# Altium integrated library TI Amplifiers and Linear Operational Amplifier High Speed.IntLib: 1100 symbols (part 16 of 44)
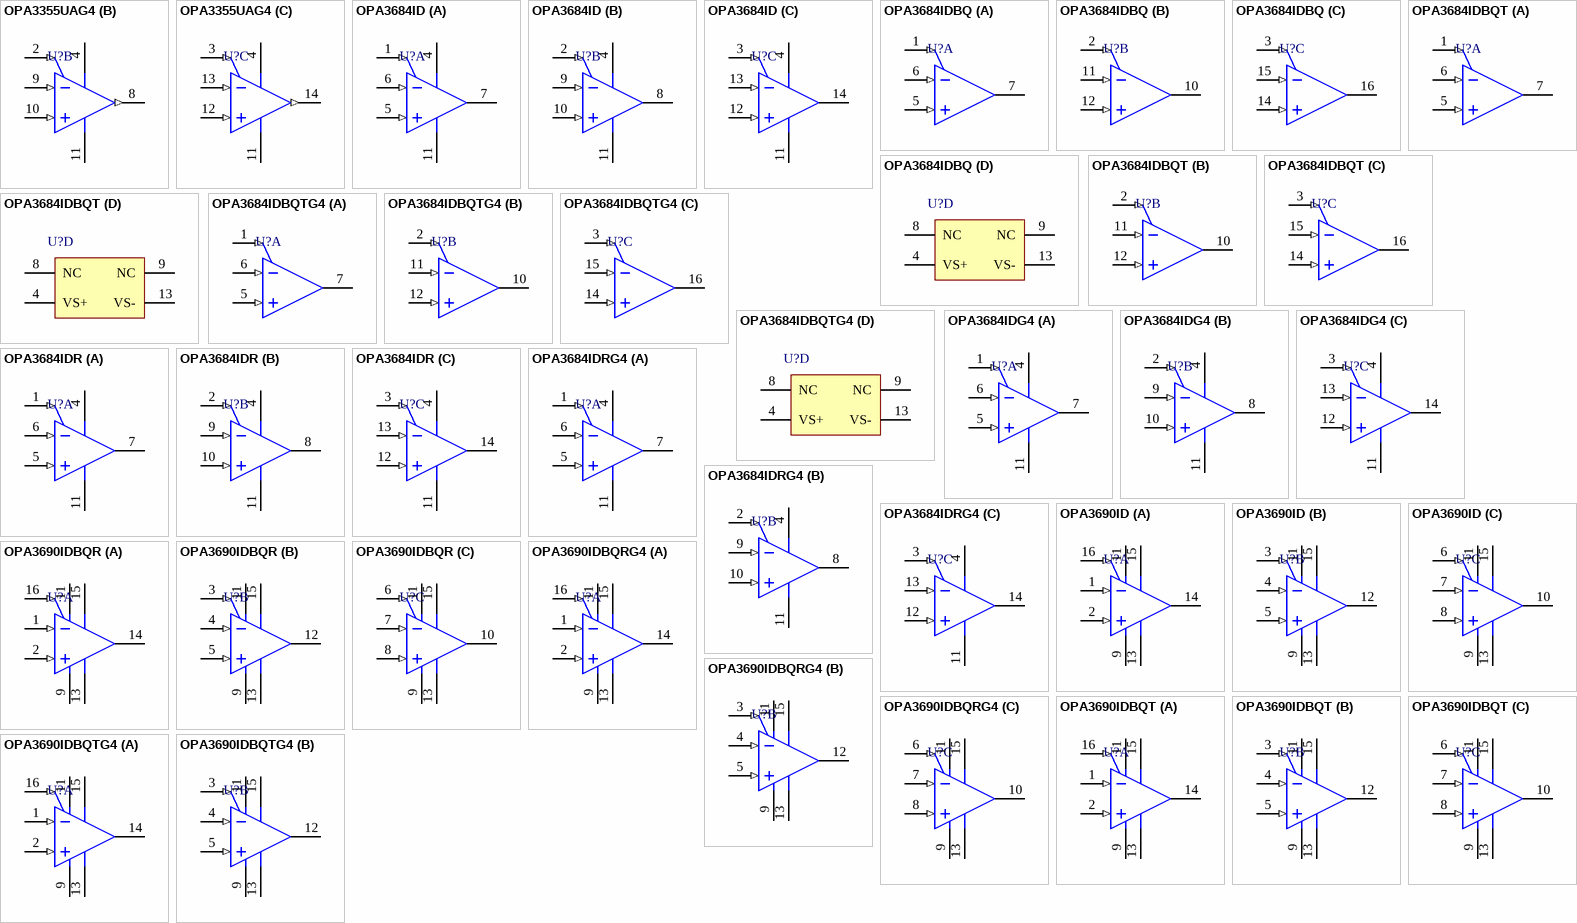
[diagram p66: symbols OPA3355UAG4 to OPA3690IDBQTG4]

## OPA3690IDBQR
designator U?
Triple, Wideband, Voltage-Feedback Operational Amplifier with Disable, 5 to 12 V, -40 to 85 degC, 16-pin SOP (DBQ16), Green (RoHS & no Sb/Br); Manufacturer: Texas Instruments; PartNumber: OPA3690IDBQR; 2nd Harmonic(dBc): 77; 3rd Harmonic(dBc): 81; @ MHz: 5; Acl, min stable gain(V/V): 1; BW @ Acl(MHz): 500; Diff Gain(%): 0.06; Diff Phase(deg): 0.01; Iib(Max)(nA): 12000; Io(Typ)(mA): 190; Iq per channel(Max)(mA): 6.3; Number of Channels: 3; Settling Time (0.1%)(Typ)(ns): 8; Slew Rate(Typ)(V/us): 1800; Sub Family: High Output Current Amplifier (>=50mA), High Speed Amplifier (>=50MHz); THD (Fc is 1 MHz)(Typ)(dB): -80; Vio(Max)(mV): 4.5; Vn at Flatband(Typ)(nV/rtHz): 5.5; Vs(Max)(V): 12; DatasheetVersion: SBOS237G; PackageVersion: 4073301-2/H, 10/2008; PackageReference: DBQ16; PackageDescription: 16-Pin, Plastic Small Outline, Body 3.9 x 4.9 mm, Pitch 0.635 mm; Supplier 1: Digi-Key; Supplier Part Number 1: OPA3690IDBQR-ND; Supplier 2: Newark; Supplier Part Number 2: 75C4928; Supplier 3: Mouser; Supplier Part Number 3: 595-OPA3690IDBQR; Eco-Plan: Green (RoHS & no Sb/Br); Vs(Min)(V): 5; Mounting Technology: Surface Mount; Code_JEDEC: MO-137; ComponentLink1Description: Manufacturer URL; ComponentLink1URL: http://www.ti.com/; ComponentLink2Description: Datasheet; ComponentLink2URL: http://www.ti.com/general/docs/lit/getliterature.tsp?genericPartNumber=OPA3690&fileType=pdf; ComponentLink3Description: Package Specification; ComponentLink3URL: http://www.ti.com/litv/pdf/msoi004g
footprint TI-DBQ16_N (SOP, 16-Leads, Body 4.9x3.9mm, Pitch 0.635mm, IPC Medium Density)
footprint TI-DBQ16_L (SOP, 16-Leads, Body 4.9x3.9mm, Pitch 0.635mm, IPC High Density)
footprint TI-DBQ16_M (SOP, 16-Leads, Body 4.9x3.9mm, Pitch 0.635mm, IPC Low Density)
pins on every part: 9 VS- (power), 11 VS+ (power), 13 VS- (power), 15 VS+ (power)
part A pins: 1 IN A- (in), 2 IN A+ (in), 14 OUT A (hiz), 16 ~{DIS A} (in)
part B pins: 3 ~{DIS B} (in), 4 IN B- (in), 5 IN B+ (in), 12 OUT B (hiz)
part C pins: 6 ~{DIS C} (in), 7 IN C- (in), 8 IN C+ (in), 10 OUT C (hiz)

## OPA3690IDBQRG4
designator U?
Triple, Wideband, Voltage-Feedback Operational Amplifier with Disable, 5 to 12 V, -40 to 85 degC, 16-pin SOP (DBQ16), Green (RoHS & no Sb/Br); Manufacturer: Texas Instruments; PartNumber: OPA3690IDBQRG4; 2nd Harmonic(dBc): 77; 3rd Harmonic(dBc): 81; @ MHz: 5; Acl, min stable gain(V/V): 1; BW @ Acl(MHz): 500; Diff Gain(%): 0.06; Diff Phase(deg): 0.03; Iib(Max)(nA): 12000; Io(Typ)(mA): 190; Iq per channel(Max)(mA): 6.3; Number of Channels: 3; Settling Time (0.1%)(Typ)(ns): 8; Slew Rate(Typ)(V/us): 1800; Sub Family: High Output Current Amplifier (>=50mA), High Speed Amplifier (>=50MHz); THD (Fc is 1 MHz)(Typ)(dB): -80; Vio(Max)(mV): 4.5; Vn at Flatband(Typ)(nV/rtHz): 5.5; Vs(Max)(V): 12; DatasheetVersion: SBOS237G; PackageVersion: 4073301-2/H, 10/2008; PackageReference: DBQ16; PackageDescription: 16-Pin, Plastic Small Outline, Body 3.9 x 4.9 mm, Pitch 0.635 mm; Supplier 1: Digi-Key; Supplier Part Number 1: OPA3690IDBQRG4-ND; Supplier 2: Mouser; Supplier Part Number 2: 595-OPA3690IDBQRG4; Eco-Plan: Green (RoHS & no Sb/Br); Vs(Min)(V): 5; Mounting Technology: Surface Mount; Code_JEDEC: MO-137; ComponentLink1Description: Manufacturer URL; ComponentLink1URL: http://www.ti.com/; ComponentLink2Description: Datasheet; ComponentLink2URL: http://www.ti.com/general/docs/lit/getliterature.tsp?genericPartNumber=OPA3690&fileType=pdf; ComponentLink3Description: Package Specification; ComponentLink3URL: http://www.ti.com/litv/pdf/msoi004g
footprint TI-DBQ16_N (SOP, 16-Leads, Body 4.9x3.9mm, Pitch 0.635mm, IPC Medium Density)
footprint TI-DBQ16_L (SOP, 16-Leads, Body 4.9x3.9mm, Pitch 0.635mm, IPC High Density)
footprint TI-DBQ16_M (SOP, 16-Leads, Body 4.9x3.9mm, Pitch 0.635mm, IPC Low Density)
pins on every part: 9 VS- (power), 11 VS+ (power), 13 VS- (power), 15 VS+ (power)
part A pins: 1 IN A- (in), 2 IN A+ (in), 14 OUT A (hiz), 16 ~{DIS A} (in)
part B pins: 3 ~{DIS B} (in), 4 IN B- (in), 5 IN B+ (in), 12 OUT B (hiz)
part C pins: 6 ~{DIS C} (in), 7 IN C- (in), 8 IN C+ (in), 10 OUT C (hiz)

## OPA3690IDBQT
designator U?
Triple, Wideband, Voltage-Feedback Operational Amplifier with Disable, 5 to 12 V, -40 to 85 degC, 16-pin SOP (DBQ16), Green (RoHS & no Sb/Br); Manufacturer: Texas Instruments; PartNumber: OPA3690IDBQT; 2nd Harmonic(dBc): 77; 3rd Harmonic(dBc): 81; @ MHz: 5; Acl, min stable gain(V/V): 1; BW @ Acl(MHz): 500; Diff Gain(%): 0.06; Diff Phase(deg): 0.01; Iib(Max)(nA): 12000; Io(Typ)(mA): 190; Iq per channel(Max)(mA): 6.3; Number of Channels: 3; Settling Time (0.1%)(Typ)(ns): 8; Slew Rate(Typ)(V/us): 1800; Sub Family: High Output Current Amplifier (>=50mA), High Speed Amplifier (>=50MHz); THD (Fc is 1 MHz)(Typ)(dB): -80; Vio(Max)(mV): 4.5; Vn at Flatband(Typ)(nV/rtHz): 5.5; Vs(Max)(V): 12; DatasheetVersion: SBOS237G; PackageVersion: 4073301-2/H, 10/2008; PackageReference: DBQ16; PackageDescription: 16-Pin, Plastic Small Outline, Body 3.9 x 4.9 mm, Pitch 0.635 mm; Supplier 1: Digi-Key; Supplier Part Number 1: OPA3690IDBQTTR-ND; Supplier 2: Digi-Key; Supplier Part Number 2: OPA3690IDBQTCT-ND; Supplier 3: Digi-Key; Supplier Part Number 3: OPA3690IDBQTDKR-ND; Supplier 4: Newark; Supplier Part Number 4: 75C4929; Supplier 5: Mouser; Supplier Part Number 5: 595-OPA3690IDBQT; Eco-Plan: Green (RoHS & no Sb/Br); Vs(Min)(V): 5; Mounting Technology: Surface Mount; Code_JEDEC: MO-137; ComponentLink1Description: Manufacturer URL; ComponentLink1URL: http://www.ti.com/; ComponentLink2Description: Datasheet; ComponentLink2URL: http://www.ti.com/general/docs/lit/getliterature.tsp?genericPartNumber=OPA3690&fileType=pdf; ComponentLink3Description: Package Specification; ComponentLink3URL: http://www.ti.com/litv/pdf/msoi004g
footprint TI-DBQ16_N (SOP, 16-Leads, Body 4.9x3.9mm, Pitch 0.635mm, IPC Medium Density)
footprint TI-DBQ16_L (SOP, 16-Leads, Body 4.9x3.9mm, Pitch 0.635mm, IPC High Density)
footprint TI-DBQ16_M (SOP, 16-Leads, Body 4.9x3.9mm, Pitch 0.635mm, IPC Low Density)
pins on every part: 9 VS- (power), 11 VS+ (power), 13 VS- (power), 15 VS+ (power)
part A pins: 1 IN A- (in), 2 IN A+ (in), 14 OUT A (hiz), 16 ~{DIS A} (in)
part B pins: 3 ~{DIS B} (in), 4 IN B- (in), 5 IN B+ (in), 12 OUT B (hiz)
part C pins: 6 ~{DIS C} (in), 7 IN C- (in), 8 IN C+ (in), 10 OUT C (hiz)

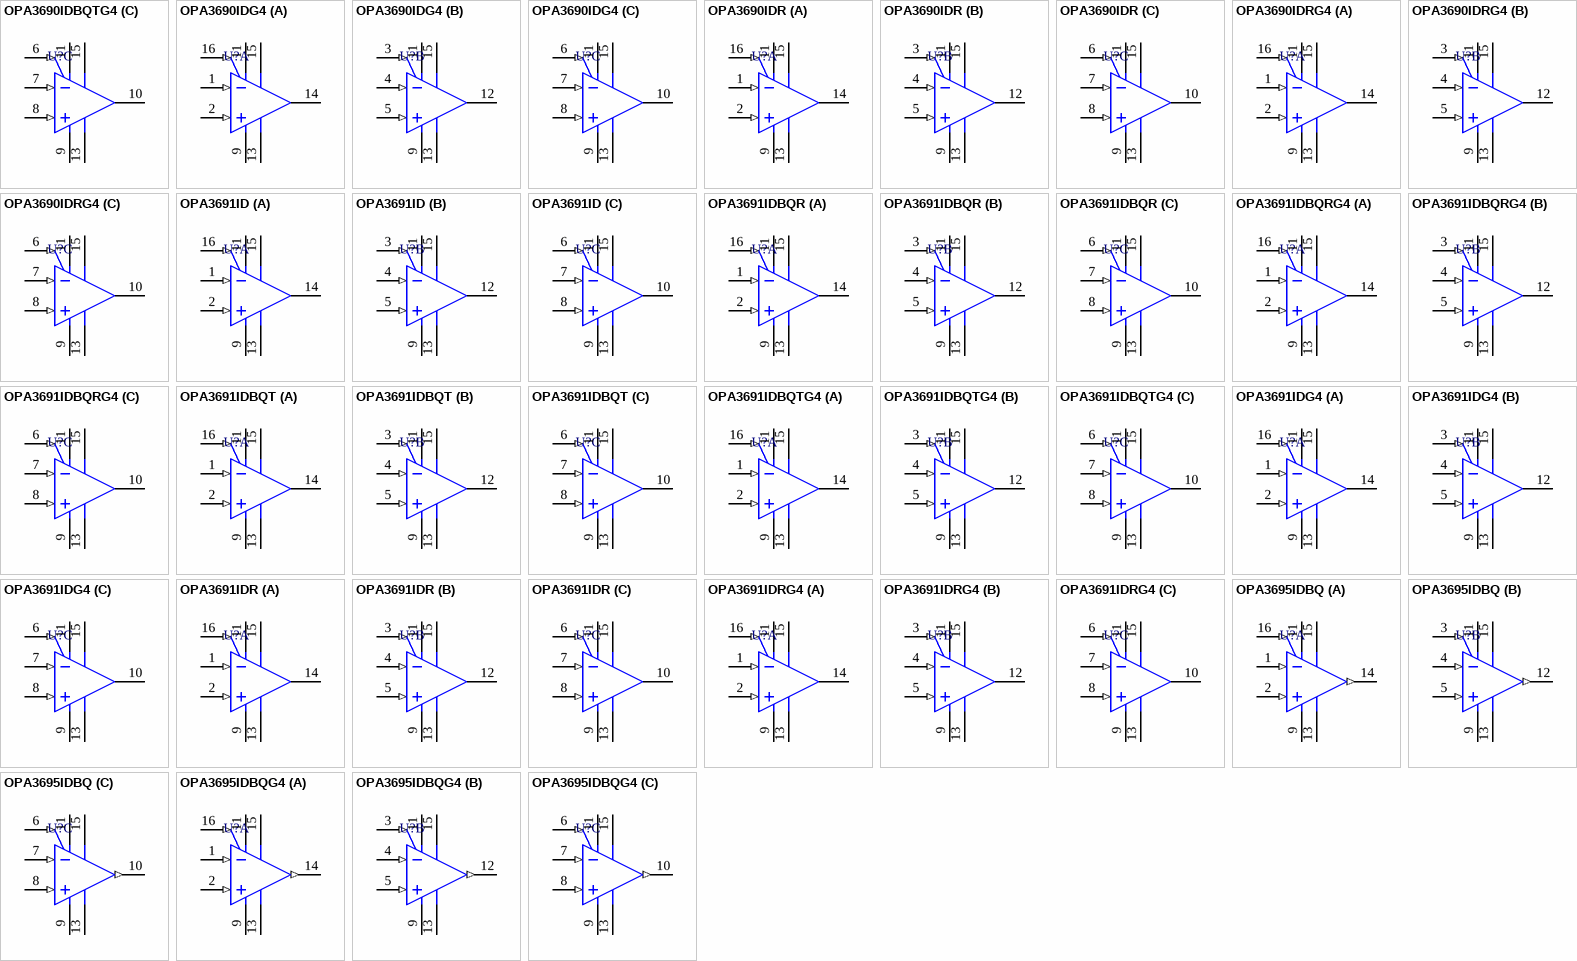
[diagram p17: symbols OPA3690IDBQTG4 to OPA3695IDBQG4]

## OPA3690IDBQTG4
designator U?
Triple, Wideband, Voltage-Feedback Operational Amplifier with Disable, 5 to 12 V, -40 to 85 degC, 16-pin SOP (DBQ16), Green (RoHS & no Sb/Br); Manufacturer: Texas Instruments; PartNumber: OPA3690IDBQTG4; 2nd Harmonic(dBc): 77; 3rd Harmonic(dBc): 81; @ MHz: 5; Acl, min stable gain(V/V): 1; BW @ Acl(MHz): 500; Diff Gain(%): 0.06; Diff Phase(deg): 0.03; Iib(Max)(nA): 12000; Io(Typ)(mA): 190; Iq per channel(Max)(mA): 6.3; Number of Channels: 3; Settling Time (0.1%)(Typ)(ns): 8; Slew Rate(Typ)(V/us): 1800; Sub Family: High Output Current Amplifier (>=50mA), High Speed Amplifier (>=50MHz); THD (Fc is 1 MHz)(Typ)(dB): -80; Vio(Max)(mV): 4.5; Vn at Flatband(Typ)(nV/rtHz): 5.5; Vs(Max)(V): 12; DatasheetVersion: SBOS237G; PackageVersion: 4073301-2/H, 10/2008; PackageReference: DBQ16; PackageDescription: 16-Pin, Plastic Small Outline, Body 3.9 x 4.9 mm, Pitch 0.635 mm; Supplier 1: Digi-Key; Supplier Part Number 1: OPA3690IDBQTG4-ND; Supplier 2: Mouser; Supplier Part Number 2: 595-OPA3690IDBQTG4; Eco-Plan: Green (RoHS & no Sb/Br); Vs(Min)(V): 5; Mounting Technology: Surface Mount; Code_JEDEC: MO-137; ComponentLink1Description: Manufacturer URL; ComponentLink1URL: http://www.ti.com/; ComponentLink2Description: Datasheet; ComponentLink2URL: http://www.ti.com/general/docs/lit/getliterature.tsp?genericPartNumber=OPA3690&fileType=pdf; ComponentLink3Description: Package Specification; ComponentLink3URL: http://www.ti.com/litv/pdf/msoi004g
footprint TI-DBQ16_N (SOP, 16-Leads, Body 4.9x3.9mm, Pitch 0.635mm, IPC Medium Density)
footprint TI-DBQ16_L (SOP, 16-Leads, Body 4.9x3.9mm, Pitch 0.635mm, IPC High Density)
footprint TI-DBQ16_M (SOP, 16-Leads, Body 4.9x3.9mm, Pitch 0.635mm, IPC Low Density)
pins on every part: 9 VS- (power), 11 VS+ (power), 13 VS- (power), 15 VS+ (power)
part A pins: 1 IN A- (in), 2 IN A+ (in), 14 OUT A (hiz), 16 ~{DIS A} (in)
part B pins: 3 ~{DIS B} (in), 4 IN B- (in), 5 IN B+ (in), 12 OUT B (hiz)
part C pins: 6 ~{DIS C} (in), 7 IN C- (in), 8 IN C+ (in), 10 OUT C (hiz)

## OPA3690IDG4
designator U?
Triple, Wideband, Voltage-Feedback Operational Amplifier with Disable, 5 to 12 V, -40 to 85 degC, 16-pin SOIC (D16), Green (RoHS & no Sb/Br); Manufacturer: Texas Instruments; PartNumber: OPA3690IDG4; 2nd Harmonic(dBc): 77; 3rd Harmonic(dBc): 81; @ MHz: 5; Acl, min stable gain(V/V): 1; BW @ Acl(MHz): 500; Diff Gain(%): 0.06; Diff Phase(deg): 0.03; Iib(Max)(nA): 12000; Io(Typ)(mA): 190; Iq per channel(Max)(mA): 6.3; Number of Channels: 3; Settling Time (0.1%)(Typ)(ns): 8; Slew Rate(Typ)(V/us): 1800; Sub Family: High Output Current Amplifier (>=50mA), High Speed Amplifier (>=50MHz); THD (Fc is 1 MHz)(Typ)(dB): -80; Vio(Max)(mV): 4.5; Vn at Flatband(Typ)(nV/rtHz): 5.5; Vs(Max)(V): 12; DatasheetVersion: SBOS237G; PackageVersion: 4040047-6/M, 06/2011; PackageReference: D16; PackageDescription: 16-Pin Plastic Small Outline, Body 9.9 x 3.9 mm, Pitch 1.27 mm; Supplier 1: Digi-Key; Supplier Part Number 1: OPA3690IDG4-ND; Supplier 2: Mouser; Supplier Part Number 2: 595-OPA3690IDG4; Eco-Plan: Green (RoHS & no Sb/Br); Vs(Min)(V): 5; Mounting Technology: Surface Mount; Code_JEDEC: MS-012; ComponentLink1Description: Manufacturer URL; ComponentLink1URL: http://www.ti.com/; ComponentLink2Description: Datasheet; ComponentLink2URL: http://www.ti.com/general/docs/lit/getliterature.tsp?genericPartNumber=OPA3690&fileType=pdf; ComponentLink3Description: Package Specification; ComponentLink3URL: http://www.ti.com/litv/pdf/mpds178g
footprint TI-D16_N (SOIC, 16-Leads, Body 9.9x3.9mm, Pitch 1.27mm, IPC Medium Density)
footprint TI-D16_L (SOIC, 16-Leads, Body 9.9x3.9mm, Pitch 1.27mm, IPC High Density)
footprint TI-D16_M (SOIC, 16-Leads, Body 9.9x3.9mm, Pitch 1.27mm, IPC Low Density)
pins on every part: 9 VS- (power), 11 VS+ (power), 13 VS- (power), 15 VS+ (power)
part A pins: 1 IN A- (in), 2 IN A+ (in), 14 OUT A (hiz), 16 ~{DIS A} (in)
part B pins: 3 ~{DIS B} (in), 4 IN B- (in), 5 IN B+ (in), 12 OUT B (hiz)
part C pins: 6 ~{DIS C} (in), 7 IN C- (in), 8 IN C+ (in), 10 OUT C (hiz)

## OPA3690IDR
designator U?
Triple, Wideband, Voltage-Feedback Operational Amplifier with Disable, 5 to 12 V, -40 to 85 degC, 16-pin SOIC (D16), Green (RoHS & no Sb/Br); Manufacturer: Texas Instruments; PartNumber: OPA3690IDR; 2nd Harmonic(dBc): 77; 3rd Harmonic(dBc): 81; @ MHz: 5; Acl, min stable gain(V/V): 1; BW @ Acl(MHz): 500; Diff Gain(%): 0.06; Diff Phase(deg): 0.03; Iib(Max)(nA): 12000; Io(Typ)(mA): 190; Iq per channel(Max)(mA): 6.3; Number of Channels: 3; Settling Time (0.1%)(Typ)(ns): 8; Slew Rate(Typ)(V/us): 1800; Sub Family: High Output Current Amplifier (>=50mA), High Speed Amplifier (>=50MHz); THD (Fc is 1 MHz)(Typ)(dB): -80; Vio(Max)(mV): 4.5; Vn at Flatband(Typ)(nV/rtHz): 5.5; Vs(Max)(V): 12; DatasheetVersion: SBOS237G; PackageVersion: 4040047-6/M, 06/2011; PackageReference: D16; PackageDescription: 16-Pin Plastic Small Outline, Body 9.9 x 3.9 mm, Pitch 1.27 mm; Supplier 1: Digi-Key; Supplier Part Number 1: OPA3690IDR-ND; Supplier 2: Mouser; Supplier Part Number 2: 595-OPA3690IDR; Eco-Plan: Green (RoHS & no Sb/Br); Vs(Min)(V): 5; Mounting Technology: Surface Mount; Code_JEDEC: MS-012; ComponentLink1Description: Manufacturer URL; ComponentLink1URL: http://www.ti.com/; ComponentLink2Description: Datasheet; ComponentLink2URL: http://www.ti.com/general/docs/lit/getliterature.tsp?genericPartNumber=OPA3690&fileType=pdf; ComponentLink3Description: Package Specification; ComponentLink3URL: http://www.ti.com/litv/pdf/mpds178g
footprint TI-D16_N (SOIC, 16-Leads, Body 9.9x3.9mm, Pitch 1.27mm, IPC Medium Density)
footprint TI-D16_L (SOIC, 16-Leads, Body 9.9x3.9mm, Pitch 1.27mm, IPC High Density)
footprint TI-D16_M (SOIC, 16-Leads, Body 9.9x3.9mm, Pitch 1.27mm, IPC Low Density)
pins on every part: 9 VS- (power), 11 VS+ (power), 13 VS- (power), 15 VS+ (power)
part A pins: 1 IN A- (in), 2 IN A+ (in), 14 OUT A (hiz), 16 ~{DIS A} (in)
part B pins: 3 ~{DIS B} (in), 4 IN B- (in), 5 IN B+ (in), 12 OUT B (hiz)
part C pins: 6 ~{DIS C} (in), 7 IN C- (in), 8 IN C+ (in), 10 OUT C (hiz)

## OPA3690IDRG4
designator U?
Triple, Wideband, Voltage-Feedback Operational Amplifier with Disable, 5 to 12 V, -40 to 85 degC, 16-pin SOIC (D16), Green (RoHS & no Sb/Br); Manufacturer: Texas Instruments; PartNumber: OPA3690IDRG4; 2nd Harmonic(dBc): 77; 3rd Harmonic(dBc): 81; @ MHz: 5; Acl, min stable gain(V/V): 1; BW @ Acl(MHz): 500; Diff Gain(%): 0.06; Diff Phase(deg): 0.01; Iib(Max)(nA): 12000; Io(Typ)(mA): 190; Iq per channel(Max)(mA): 6.3; Number of Channels: 3; Settling Time (0.1%)(Typ)(ns): 8; Slew Rate(Typ)(V/us): 1800; Sub Family: High Output Current Amplifier (>=50mA), High Speed Amplifier (>=50MHz); THD (Fc is 1 MHz)(Typ)(dB): -80; Vio(Max)(mV): 4.5; Vn at Flatband(Typ)(nV/rtHz): 5.5; Vs(Max)(V): 12; DatasheetVersion: SBOS237G; PackageVersion: 4040047-6/M, 06/2011; PackageReference: D16; PackageDescription: 16-Pin Plastic Small Outline, Body 9.9 x 3.9 mm, Pitch 1.27 mm; Supplier 1: Digi-Key; Supplier Part Number 1: OPA3690IDRG4-ND; Supplier 2: Mouser; Supplier Part Number 2: 595-OPA3690IDRG4; Eco-Plan: Green (RoHS & no Sb/Br); Vs(Min)(V): 5; Mounting Technology: Surface Mount; Code_JEDEC: MS-012; ComponentLink1Description: Manufacturer URL; ComponentLink1URL: http://www.ti.com/; ComponentLink2Description: Datasheet; ComponentLink2URL: http://www.ti.com/general/docs/lit/getliterature.tsp?genericPartNumber=OPA3690&fileType=pdf; ComponentLink3Description: Package Specification; ComponentLink3URL: http://www.ti.com/litv/pdf/mpds178g
footprint TI-D16_N (SOIC, 16-Leads, Body 9.9x3.9mm, Pitch 1.27mm, IPC Medium Density)
footprint TI-D16_L (SOIC, 16-Leads, Body 9.9x3.9mm, Pitch 1.27mm, IPC High Density)
footprint TI-D16_M (SOIC, 16-Leads, Body 9.9x3.9mm, Pitch 1.27mm, IPC Low Density)
pins on every part: 9 VS- (power), 11 VS+ (power), 13 VS- (power), 15 VS+ (power)
part A pins: 1 IN A- (in), 2 IN A+ (in), 14 OUT A (hiz), 16 ~{DIS A} (in)
part B pins: 3 ~{DIS B} (in), 4 IN B- (in), 5 IN B+ (in), 12 OUT B (hiz)
part C pins: 6 ~{DIS C} (in), 7 IN C- (in), 8 IN C+ (in), 10 OUT C (hiz)

## OPA3691ID
designator U?
Triple Wideband Current Feedback Operational Amplifier with Disable, 5 to 12 V, -40 to 85 degC, 16-pin SOIC (D16), Green (RoHS & no Sb/Br); Manufacturer: Texas Instruments; PartNumber: OPA3691ID; 2nd Harmonic(dBc): 79; 3rd Harmonic(dBc): 93; @ MHz: 5; Acl, min stable gain(V/V): 1; BW @ Acl(MHz): 280; Diff Gain(%): 0.07; Diff Phase(deg): 0.02; Iib(Max)(nA): 45000; Io(Typ)(mA): 190; Iq per channel(Max)(mA): 5.1; Number of Channels: 3; Settling Time (0.1%)(Typ)(ns): 8; Slew Rate(Typ)(V/us): 2100; Sub Family: High Output Current Amplifier (>=50mA), High Speed Amplifier (>=50MHz); THD (Fc is 1 MHz)(Typ)(dB): -80; Vn at Flatband(Typ)(nV/rtHz): 1.7; Vs(Max)(V): 12; DatasheetVersion: SBOS227E; PackageVersion: 4040047-6/M, 06/2011; PackageReference: D16; PackageDescription: 16-Pin Plastic Small Outline, Body 9.9 x 3.9 mm, Pitch 1.27 mm; Supplier 1: Digi-Key; Supplier Part Number 1: OPA3691ID-ND; Supplier 2: Newark; Supplier Part Number 2: 75C4931; Supplier 3: Mouser; Supplier Part Number 3: 595-OPA3691ID; Eco-Plan: Green (RoHS & no Sb/Br); Vio(Max)(mV): 3; Vs(Min)(V): 5; Mounting Technology: Surface Mount; Code_JEDEC: MS-012; ComponentLink1Description: Manufacturer URL; ComponentLink1URL: http://www.ti.com/; ComponentLink2Description: Datasheet; ComponentLink2URL: http://www.ti.com/general/docs/lit/getliterature.tsp?genericPartNumber=OPA3691&fileType=pdf; ComponentLink3Description: Package Specification; ComponentLink3URL: http://www.ti.com/litv/pdf/mpds178g
footprint TI-D16_N (SOIC, 16-Leads, Body 9.9x3.9mm, Pitch 1.27mm, IPC Medium Density)
footprint TI-D16_L (SOIC, 16-Leads, Body 9.9x3.9mm, Pitch 1.27mm, IPC High Density)
footprint TI-D16_M (SOIC, 16-Leads, Body 9.9x3.9mm, Pitch 1.27mm, IPC Low Density)
pins on every part: 9 VS- (power), 11 VS+ (power), 13 VS- (power), 15 VS+ (power)
part A pins: 1 IN A- (in), 2 IN A+ (in), 14 OUT A (hiz), 16 ~{DIS A} (in)
part B pins: 3 ~{DIS B} (in), 4 IN B- (in), 5 IN B+ (in), 12 OUT B (hiz)
part C pins: 6 ~{DIS C} (in), 7 IN C- (in), 8 IN C+ (in), 10 OUT C (hiz)

## OPA3691IDBQR
designator U?
Triple Wideband Current Feedback Operational Amplifier with Disable, 5 to 12 V, -40 to 85 degC, 16-pin SOP (DBQ16), Green (RoHS & no Sb/Br); Manufacturer: Texas Instruments; PartNumber: OPA3691IDBQR; 2nd Harmonic(dBc): 79; 3rd Harmonic(dBc): 93; @ MHz: 5; Acl, min stable gain(V/V): 1; BW @ Acl(MHz): 280; Diff Gain(%): 0.07; Diff Phase(deg): 0.02; Iib(Max)(nA): 45000; Io(Typ)(mA): 190; Iq per channel(Max)(mA): 5.1; Number of Channels: 3; Settling Time (0.1%)(Typ)(ns): 8; Slew Rate(Typ)(V/us): 2100; Sub Family: High Output Current Amplifier (>=50mA), High Speed Amplifier (>=50MHz); THD (Fc is 1 MHz)(Typ)(dB): -80; Vn at Flatband(Typ)(nV/rtHz): 1.7; Vs(Max)(V): 12; DatasheetVersion: SBOS227E; PackageVersion: 4073301-2/H, 10/2008; PackageReference: DBQ16; PackageDescription: 16-Pin, Plastic Small Outline, Body 3.9 x 4.9 mm, Pitch 0.635 mm; Supplier 1: Digi-Key; Supplier Part Number 1: OPA3691IDBQR-ND; Supplier 2: Mouser; Supplier Part Number 2: 595-OPA3691IDBQR; Eco-Plan: Green (RoHS & no Sb/Br); Vio(Max)(mV): 3; Vs(Min)(V): 5; Mounting Technology: Surface Mount; Code_JEDEC: MO-137; ComponentLink1Description: Manufacturer URL; ComponentLink1URL: http://www.ti.com/; ComponentLink2Description: Datasheet; ComponentLink2URL: http://www.ti.com/general/docs/lit/getliterature.tsp?genericPartNumber=OPA3691&fileType=pdf; ComponentLink3Description: Package Specification; ComponentLink3URL: http://www.ti.com/litv/pdf/msoi004g
footprint TI-DBQ16_N (SOP, 16-Leads, Body 4.9x3.9mm, Pitch 0.635mm, IPC Medium Density)
footprint TI-DBQ16_L (SOP, 16-Leads, Body 4.9x3.9mm, Pitch 0.635mm, IPC High Density)
footprint TI-DBQ16_M (SOP, 16-Leads, Body 4.9x3.9mm, Pitch 0.635mm, IPC Low Density)
pins on every part: 9 VS- (power), 11 VS+ (power), 13 VS- (power), 15 VS+ (power)
part A pins: 1 IN A- (in), 2 IN A+ (in), 14 OUT A (hiz), 16 ~{DIS A} (in)
part B pins: 3 ~{DIS B} (in), 4 IN B- (in), 5 IN B+ (in), 12 OUT B (hiz)
part C pins: 6 ~{DIS C} (in), 7 IN C- (in), 8 IN C+ (in), 10 OUT C (hiz)

## OPA3691IDBQRG4
designator U?
Triple Wideband Current Feedback Operational Amplifier with Disable, 5 to 12 V, -40 to 85 degC, 16-pin SOP (DBQ16), Green (RoHS & no Sb/Br); Manufacturer: Texas Instruments; PartNumber: OPA3691IDBQRG4; 2nd Harmonic(dBc): 79; 3rd Harmonic(dBc): 93; @ MHz: 5; Acl, min stable gain(V/V): 1; BW @ Acl(MHz): 280; Diff Gain(%): 0.07; Diff Phase(deg): 0.02; Iib(Max)(nA): 45000; Io(Typ)(mA): 190; Iq per channel(Max)(mA): 5.1; Number of Channels: 3; Settling Time (0.1%)(Typ)(ns): 8; Slew Rate(Typ)(V/us): 2100; Sub Family: High Output Current Amplifier (>=50mA), High Speed Amplifier (>=50MHz); THD (Fc is 1 MHz)(Typ)(dB): -80; Vn at Flatband(Typ)(nV/rtHz): 1.7; Vs(Max)(V): 12; DatasheetVersion: SBOS227E; PackageVersion: 4073301-2/H, 10/2008; PackageReference: DBQ16; PackageDescription: 16-Pin, Plastic Small Outline, Body 3.9 x 4.9 mm, Pitch 0.635 mm; Supplier 1: Digi-Key; Supplier Part Number 1: OPA3691IDBQRG4-ND; Supplier 2: Mouser; Supplier Part Number 2: 595-OPA3691IDBQRG4; Eco-Plan: Green (RoHS & no Sb/Br); Vio(Max)(mV): 3; Vs(Min)(V): 5; Mounting Technology: Surface Mount; Code_JEDEC: MO-137; ComponentLink1Description: Manufacturer URL; ComponentLink1URL: http://www.ti.com/; ComponentLink2Description: Datasheet; ComponentLink2URL: http://www.ti.com/general/docs/lit/getliterature.tsp?genericPartNumber=OPA3691&fileType=pdf; ComponentLink3Description: Package Specification; ComponentLink3URL: http://www.ti.com/litv/pdf/msoi004g
footprint TI-DBQ16_N (SOP, 16-Leads, Body 4.9x3.9mm, Pitch 0.635mm, IPC Medium Density)
footprint TI-DBQ16_L (SOP, 16-Leads, Body 4.9x3.9mm, Pitch 0.635mm, IPC High Density)
footprint TI-DBQ16_M (SOP, 16-Leads, Body 4.9x3.9mm, Pitch 0.635mm, IPC Low Density)
pins on every part: 9 VS- (power), 11 VS+ (power), 13 VS- (power), 15 VS+ (power)
part A pins: 1 IN A- (in), 2 IN A+ (in), 14 OUT A (hiz), 16 ~{DIS A} (in)
part B pins: 3 ~{DIS B} (in), 4 IN B- (in), 5 IN B+ (in), 12 OUT B (hiz)
part C pins: 6 ~{DIS C} (in), 7 IN C- (in), 8 IN C+ (in), 10 OUT C (hiz)

## OPA3691IDBQT
designator U?
Triple Wideband Current Feedback Operational Amplifier with Disable, 5 to 12 V, -40 to 85 degC, 16-pin SOP (DBQ16), Green (RoHS & no Sb/Br); Manufacturer: Texas Instruments; PartNumber: OPA3691IDBQT; 2nd Harmonic(dBc): 79; 3rd Harmonic(dBc): 93; @ MHz: 5; Acl, min stable gain(V/V): 1; BW @ Acl(MHz): 280; Diff Gain(%): 0.07; Diff Phase(deg): 0.02; Iib(Max)(nA): 45000; Io(Typ)(mA): 190; Iq per channel(Max)(mA): 5.1; Number of Channels: 3; Settling Time (0.1%)(Typ)(ns): 8; Slew Rate(Typ)(V/us): 2100; Sub Family: High Output Current Amplifier (>=50mA), High Speed Amplifier (>=50MHz); THD (Fc is 1 MHz)(Typ)(dB): -80; Vn at Flatband(Typ)(nV/rtHz): 1.7; Vs(Max)(V): 12; DatasheetVersion: SBOS227E; PackageVersion: 4073301-2/H, 10/2008; PackageReference: DBQ16; PackageDescription: 16-Pin, Plastic Small Outline, Body 3.9 x 4.9 mm, Pitch 0.635 mm; Supplier 1: Digi-Key; Supplier Part Number 1: OPA3691IDBQTTR-ND; Supplier 2: Digi-Key; Supplier Part Number 2: OPA3691IDBQTCT-ND; Supplier 3: Digi-Key; Supplier Part Number 3: OPA3691IDBQTDKR-ND; Supplier 4: Newark; Supplier Part Number 4: 75C4933; Supplier 5: Mouser; Supplier Part Number 5: 595-OPA3691IDBQT; Eco-Plan: Green (RoHS & no Sb/Br); Vio(Max)(mV): 3; Vs(Min)(V): 5; Mounting Technology: Surface Mount; Code_JEDEC: MO-137; ComponentLink1Description: Manufacturer URL; ComponentLink1URL: http://www.ti.com/; ComponentLink2Description: Datasheet; ComponentLink2URL: http://www.ti.com/general/docs/lit/getliterature.tsp?genericPartNumber=OPA3691&fileType=pdf; ComponentLink3Description: Package Specification; ComponentLink3URL: http://www.ti.com/litv/pdf/msoi004g
footprint TI-DBQ16_N (SOP, 16-Leads, Body 4.9x3.9mm, Pitch 0.635mm, IPC Medium Density)
footprint TI-DBQ16_L (SOP, 16-Leads, Body 4.9x3.9mm, Pitch 0.635mm, IPC High Density)
footprint TI-DBQ16_M (SOP, 16-Leads, Body 4.9x3.9mm, Pitch 0.635mm, IPC Low Density)
pins on every part: 9 VS- (power), 11 VS+ (power), 13 VS- (power), 15 VS+ (power)
part A pins: 1 IN A- (in), 2 IN A+ (in), 14 OUT A (hiz), 16 ~{DIS A} (in)
part B pins: 3 ~{DIS B} (in), 4 IN B- (in), 5 IN B+ (in), 12 OUT B (hiz)
part C pins: 6 ~{DIS C} (in), 7 IN C- (in), 8 IN C+ (in), 10 OUT C (hiz)

## OPA3691IDBQTG4
designator U?
Triple Wideband Current Feedback Operational Amplifier with Disable, 5 to 12 V, -40 to 85 degC, 16-pin SOP (DBQ16), Green (RoHS & no Sb/Br); Manufacturer: Texas Instruments; PartNumber: OPA3691IDBQTG4; 2nd Harmonic(dBc): 79; 3rd Harmonic(dBc): 93; @ MHz: 5; Acl, min stable gain(V/V): 1; BW @ Acl(MHz): 280; Diff Gain(%): 0.07; Diff Phase(deg): 0.02; Iib(Max)(nA): 45000; Io(Typ)(mA): 190; Iq per channel(Max)(mA): 5.1; Number of Channels: 3; Settling Time (0.1%)(Typ)(ns): 8; Slew Rate(Typ)(V/us): 2100; Sub Family: High Output Current Amplifier (>=50mA), High Speed Amplifier (>=50MHz); THD (Fc is 1 MHz)(Typ)(dB): -80; Vn at Flatband(Typ)(nV/rtHz): 1.7; Vs(Max)(V): 12; DatasheetVersion: SBOS227E; PackageVersion: 4073301-2/H, 10/2008; PackageReference: DBQ16; PackageDescription: 16-Pin, Plastic Small Outline, Body 3.9 x 4.9 mm, Pitch 0.635 mm; Supplier 1: Digi-Key; Supplier Part Number 1: OPA3691IDBQTG4-ND; Supplier 2: Mouser; Supplier Part Number 2: 595-OPA3691IDBQTG4; Eco-Plan: Green (RoHS & no Sb/Br); Vio(Max)(mV): 3; Vs(Min)(V): 5; Mounting Technology: Surface Mount; Code_JEDEC: MO-137; ComponentLink1Description: Manufacturer URL; ComponentLink1URL: http://www.ti.com/; ComponentLink2Description: Datasheet; ComponentLink2URL: http://www.ti.com/general/docs/lit/getliterature.tsp?genericPartNumber=OPA3691&fileType=pdf; ComponentLink3Description: Package Specification; ComponentLink3URL: http://www.ti.com/litv/pdf/msoi004g
footprint TI-DBQ16_N (SOP, 16-Leads, Body 4.9x3.9mm, Pitch 0.635mm, IPC Medium Density)
footprint TI-DBQ16_L (SOP, 16-Leads, Body 4.9x3.9mm, Pitch 0.635mm, IPC High Density)
footprint TI-DBQ16_M (SOP, 16-Leads, Body 4.9x3.9mm, Pitch 0.635mm, IPC Low Density)
pins on every part: 9 VS- (power), 11 VS+ (power), 13 VS- (power), 15 VS+ (power)
part A pins: 1 IN A- (in), 2 IN A+ (in), 14 OUT A (hiz), 16 ~{DIS A} (in)
part B pins: 3 ~{DIS B} (in), 4 IN B- (in), 5 IN B+ (in), 12 OUT B (hiz)
part C pins: 6 ~{DIS C} (in), 7 IN C- (in), 8 IN C+ (in), 10 OUT C (hiz)

## OPA3691IDG4
designator U?
Triple Wideband Current Feedback Operational Amplifier with Disable, 5 to 12 V, -40 to 85 degC, 16-pin SOIC (D16), Green (RoHS & no Sb/Br); Manufacturer: Texas Instruments; PartNumber: OPA3691IDG4; 2nd Harmonic(dBc): 79; 3rd Harmonic(dBc): 93; @ MHz: 5; Acl, min stable gain(V/V): 1; BW @ Acl(MHz): 280; Diff Gain(%): 0.07; Diff Phase(deg): 0.02; Iib(Max)(nA): 45000; Io(Typ)(mA): 190; Iq per channel(Max)(mA): 5.1; Number of Channels: 3; Settling Time (0.1%)(Typ)(ns): 8; Slew Rate(Typ)(V/us): 2100; Sub Family: High Output Current Amplifier (>=50mA), High Speed Amplifier (>=50MHz); THD (Fc is 1 MHz)(Typ)(dB): -80; Vn at Flatband(Typ)(nV/rtHz): 1.7; Vs(Max)(V): 12; DatasheetVersion: SBOS227E; PackageVersion: 4040047-6/M, 06/2011; PackageReference: D16; PackageDescription: 16-Pin Plastic Small Outline, Body 9.9 x 3.9 mm, Pitch 1.27 mm; Supplier 1: Digi-Key; Supplier Part Number 1: OPA3691IDG4-ND; Supplier 2: Mouser; Supplier Part Number 2: 595-OPA3691IDG4; Eco-Plan: Green (RoHS & no Sb/Br); Vio(Max)(mV): 3; Vs(Min)(V): 5; Mounting Technology: Surface Mount; Code_JEDEC: MS-012; ComponentLink1Description: Manufacturer URL; ComponentLink1URL: http://www.ti.com/; ComponentLink2Description: Datasheet; ComponentLink2URL: http://www.ti.com/general/docs/lit/getliterature.tsp?genericPartNumber=OPA3691&fileType=pdf; ComponentLink3Description: Package Specification; ComponentLink3URL: http://www.ti.com/litv/pdf/mpds178g
footprint TI-D16_N (SOIC, 16-Leads, Body 9.9x3.9mm, Pitch 1.27mm, IPC Medium Density)
footprint TI-D16_L (SOIC, 16-Leads, Body 9.9x3.9mm, Pitch 1.27mm, IPC High Density)
footprint TI-D16_M (SOIC, 16-Leads, Body 9.9x3.9mm, Pitch 1.27mm, IPC Low Density)
pins on every part: 9 VS- (power), 11 VS+ (power), 13 VS- (power), 15 VS+ (power)
part A pins: 1 IN A- (in), 2 IN A+ (in), 14 OUT A (hiz), 16 ~{DIS A} (in)
part B pins: 3 ~{DIS B} (in), 4 IN B- (in), 5 IN B+ (in), 12 OUT B (hiz)
part C pins: 6 ~{DIS C} (in), 7 IN C- (in), 8 IN C+ (in), 10 OUT C (hiz)

## OPA3691IDR
designator U?
Triple Wideband Current Feedback Operational Amplifier with Disable, 5 to 12 V, -40 to 85 degC, 16-pin SOIC (D16), Green (RoHS & no Sb/Br); Manufacturer: Texas Instruments; PartNumber: OPA3691IDR; 2nd Harmonic(dBc): 79; 3rd Harmonic(dBc): 93; @ MHz: 5; Acl, min stable gain(V/V): 1; BW @ Acl(MHz): 280; Diff Gain(%): 0.07; Diff Phase(deg): 0.02; Iib(Max)(nA): 45000; Io(Typ)(mA): 190; Iq per channel(Max)(mA): 5.1; Number of Channels: 3; Settling Time (0.1%)(Typ)(ns): 8; Slew Rate(Typ)(V/us): 2100; Sub Family: High Output Current Amplifier (>=50mA), High Speed Amplifier (>=50MHz); THD (Fc is 1 MHz)(Typ)(dB): -80; Vn at Flatband(Typ)(nV/rtHz): 1.7; Vs(Max)(V): 12; DatasheetVersion: SBOS227E; PackageVersion: 4040047-6/M, 06/2011; PackageReference: D16; PackageDescription: 16-Pin Plastic Small Outline, Body 9.9 x 3.9 mm, Pitch 1.27 mm; Supplier 1: Digi-Key; Supplier Part Number 1: OPA3691IDR-ND; Supplier 2: Mouser; Supplier Part Number 2: 595-OPA3691IDR; Eco-Plan: Green (RoHS & no Sb/Br); Vio(Max)(mV): 3; Vs(Min)(V): 5; Mounting Technology: Surface Mount; Code_JEDEC: MS-012; ComponentLink1Description: Manufacturer URL; ComponentLink1URL: http://www.ti.com/; ComponentLink2Description: Datasheet; ComponentLink2URL: http://www.ti.com/general/docs/lit/getliterature.tsp?genericPartNumber=OPA3691&fileType=pdf; ComponentLink3Description: Package Specification; ComponentLink3URL: http://www.ti.com/litv/pdf/mpds178g
footprint TI-D16_N (SOIC, 16-Leads, Body 9.9x3.9mm, Pitch 1.27mm, IPC Medium Density)
footprint TI-D16_L (SOIC, 16-Leads, Body 9.9x3.9mm, Pitch 1.27mm, IPC High Density)
footprint TI-D16_M (SOIC, 16-Leads, Body 9.9x3.9mm, Pitch 1.27mm, IPC Low Density)
pins on every part: 9 VS- (power), 11 VS+ (power), 13 VS- (power), 15 VS+ (power)
part A pins: 1 IN A- (in), 2 IN A+ (in), 14 OUT A (hiz), 16 ~{DIS A} (in)
part B pins: 3 ~{DIS B} (in), 4 IN B- (in), 5 IN B+ (in), 12 OUT B (hiz)
part C pins: 6 ~{DIS C} (in), 7 IN C- (in), 8 IN C+ (in), 10 OUT C (hiz)

## OPA3691IDRG4
designator U?
Triple Wideband Current Feedback Operational Amplifier with Disable, 5 to 12 V, -40 to 85 degC, 16-pin SOIC (D16), Green (RoHS & no Sb/Br); Manufacturer: Texas Instruments; PartNumber: OPA3691IDRG4; 2nd Harmonic(dBc): 79; 3rd Harmonic(dBc): 93; @ MHz: 5; Acl, min stable gain(V/V): 1; BW @ Acl(MHz): 280; Diff Gain(%): 0.07; Diff Phase(deg): 0.02; Iib(Max)(nA): 40000; Io(Typ)(mA): 190; Iq per channel(Max)(mA): 5.1; Number of Channels: 3; Settling Time (0.1%)(Typ)(ns): 8; Slew Rate(Typ)(V/us): 2100; Sub Family: High Output Current Amplifier (>=50mA), High Speed Amplifier (>=50MHz); THD (Fc is 1 MHz)(Typ)(dB): -80; Vio(Max)(mV): 4.8; Vn at Flatband(Typ)(nV/rtHz): 3.1; Vs(Max)(V): 12; DatasheetVersion: SBOS227E; PackageVersion: 4040047-6/M, 06/2011; PackageReference: D16; PackageDescription: 16-Pin Plastic Small Outline, Body 9.9 x 3.9 mm, Pitch 1.27 mm; Supplier 1: Digi-Key; Supplier Part Number 1: OPA3691IDRG4-ND; Supplier 2: Mouser; Supplier Part Number 2: 595-OPA3691IDRG4; Eco-Plan: Green (RoHS & no Sb/Br); Vs(Min)(V): 5; Mounting Technology: Surface Mount; Code_JEDEC: MS-012; ComponentLink1Description: Manufacturer URL; ComponentLink1URL: http://www.ti.com/; ComponentLink2Description: Datasheet; ComponentLink2URL: http://www.ti.com/general/docs/lit/getliterature.tsp?genericPartNumber=OPA3691&fileType=pdf; ComponentLink3Description: Package Specification; ComponentLink3URL: http://www.ti.com/litv/pdf/mpds178g
footprint TI-D16_N (SOIC, 16-Leads, Body 9.9x3.9mm, Pitch 1.27mm, IPC Medium Density)
footprint TI-D16_L (SOIC, 16-Leads, Body 9.9x3.9mm, Pitch 1.27mm, IPC High Density)
footprint TI-D16_M (SOIC, 16-Leads, Body 9.9x3.9mm, Pitch 1.27mm, IPC Low Density)
pins on every part: 9 VS- (power), 11 VS+ (power), 13 VS- (power), 15 VS+ (power)
part A pins: 1 IN A- (in), 2 IN A+ (in), 14 OUT A (hiz), 16 ~{DIS A} (in)
part B pins: 3 ~{DIS B} (in), 4 IN B- (in), 5 IN B+ (in), 12 OUT B (hiz)
part C pins: 6 ~{DIS C} (in), 7 IN C- (in), 8 IN C+ (in), 10 OUT C (hiz)

## OPA3695IDBQ
designator U?
Ultra-Wideband, Current-Feedback Operational Amplifier with Disable, 3.5 to 12 V, -40 to 85 degC, 16-pin SOP (DBQ16), Green (RoHS & no Sb/Br); Manufacturer: Texas Instruments; PartNumber: OPA3695IDBQ; 2nd Harmonic(dBc): 78; 3rd Harmonic(dBc): 86; @ MHz: 10; Acl, min stable gain(V/V): 2; BW @ Acl(MHz): 900; Diff Gain(%): 0.04; Diff Phase(deg): 0.007; Iib(Max)(nA): 30000; Io(Typ)(mA): 120; Iq per channel(Max)(mA): 13.4; Number of Channels: 3; Slew Rate(Typ)(V/us): 2400; Sub Family: High Output Current Amplifier (>=50mA), High Speed Amplifier (>=50MHz); Vio(Max)(mV): 3.5; Vn at Flatband(Typ)(nV/rtHz): 1.8; Vs(Max)(V): 12; DatasheetVersion: SBOS355A; PackageVersion: 4073301-2/H, 10/2008; PackageReference: DBQ16; PackageDescription: 16-Pin, Plastic Small Outline, Body 3.9 x 4.9 mm, Pitch 0.635 mm; Supplier 1: Digi-Key; Supplier Part Number 1: 296-23389-5-ND; Supplier 2: Farnell; Supplier Part Number 2: 1754995; Supplier 3: Newark; Supplier Part Number 3: 50R5632; Supplier 4: Mouser; Supplier Part Number 4: 595-OPA3695IDBQ; Eco-Plan: Green (RoHS & no Sb/Br); Settling Time (0.1%)(Typ)(ns): 10; Vs(Min)(V): 3.5; Mounting Technology: Surface Mount; Code_JEDEC: MO-137; ComponentLink1Description: Manufacturer URL; ComponentLink1URL: http://www.ti.com/; ComponentLink2Description: Datasheet; ComponentLink2URL: http://www.ti.com/general/docs/lit/getliterature.tsp?genericPartNumber=OPA3695&fileType=pdf; ComponentLink3Description: Package Specification; ComponentLink3URL: http://www.ti.com/litv/pdf/msoi004g
footprint TI-DBQ16_N (SOP, 16-Leads, Body 4.9x3.9mm, Pitch 0.635mm, IPC Medium Density)
footprint TI-DBQ16_L (SOP, 16-Leads, Body 4.9x3.9mm, Pitch 0.635mm, IPC High Density)
footprint TI-DBQ16_M (SOP, 16-Leads, Body 4.9x3.9mm, Pitch 0.635mm, IPC Low Density)
pins on every part: 9 VS- (power), 11 VS+ (power), 13 VS- (power), 15 VS+ (power)
part A pins: 1 IN A- (in), 2 IN A+ (in), 14 OUT A (out), 16 ~{DIS A} (in)
part B pins: 3 ~{DIS B} (in), 4 IN B- (in), 5 IN B+ (in), 12 OUT B (out)
part C pins: 6 ~{DIS C} (in), 7 IN C- (in), 8 IN C+ (in), 10 OUT C (out)

## OPA3695IDBQG4
designator U?
Ultra-Wideband, Current-Feedback Operational Amplifier with Disable, 3.5 to 12 V, -40 to 85 degC, 16-pin SOP (DBQ16), Green (RoHS & no Sb/Br); Manufacturer: Texas Instruments; PartNumber: OPA3695IDBQG4; 2nd Harmonic(dBc): 78; 3rd Harmonic(dBc): 86; @ MHz: 10; Acl, min stable gain(V/V): 2; BW @ Acl(MHz): 900; Diff Gain(%): 0.04; Diff Phase(deg): 0.007; Iib(Max)(nA): 30000; Io(Typ)(mA): 120; Iq per channel(Max)(mA): 13.4; Number of Channels: 3; Slew Rate(Typ)(V/us): 2400; Sub Family: High Output Current Amplifier (>=50mA), High Speed Amplifier (>=50MHz); Vio(Max)(mV): 3.5; Vn at Flatband(Typ)(nV/rtHz): 1.8; Vs(Max)(V): 12; DatasheetVersion: SBOS355A; PackageVersion: 4073301-2/H, 10/2008; PackageReference: DBQ16; PackageDescription: 16-Pin, Plastic Small Outline, Body 3.9 x 4.9 mm, Pitch 0.635 mm; Supplier 1: Digi-Key; Supplier Part Number 1: OPA3695IDBQG4-ND; Supplier 2: Mouser; Supplier Part Number 2: 595-OPA3695IDBQG4; Eco-Plan: Green (RoHS & no Sb/Br); Settling Time (0.1%)(Typ)(ns): 10; Vs(Min)(V): 3.5; Mounting Technology: Surface Mount; Code_JEDEC: MO-137; ComponentLink1Description: Manufacturer URL; ComponentLink1URL: http://www.ti.com/; ComponentLink2Description: Datasheet; ComponentLink2URL: http://www.ti.com/general/docs/lit/getliterature.tsp?genericPartNumber=OPA3695&fileType=pdf; ComponentLink3Description: Package Specification; ComponentLink3URL: http://www.ti.com/litv/pdf/msoi004g
footprint TI-DBQ16_N (SOP, 16-Leads, Body 4.9x3.9mm, Pitch 0.635mm, IPC Medium Density)
footprint TI-DBQ16_L (SOP, 16-Leads, Body 4.9x3.9mm, Pitch 0.635mm, IPC High Density)
footprint TI-DBQ16_M (SOP, 16-Leads, Body 4.9x3.9mm, Pitch 0.635mm, IPC Low Density)
pins on every part: 9 VS- (power), 11 VS+ (power), 13 VS- (power), 15 VS+ (power)
part A pins: 1 IN A- (in), 2 IN A+ (in), 14 OUT A (out), 16 ~{DIS A} (in)
part B pins: 3 ~{DIS B} (in), 4 IN B- (in), 5 IN B+ (in), 12 OUT B (out)
part C pins: 6 ~{DIS C} (in), 7 IN C- (in), 8 IN C+ (in), 10 OUT C (out)

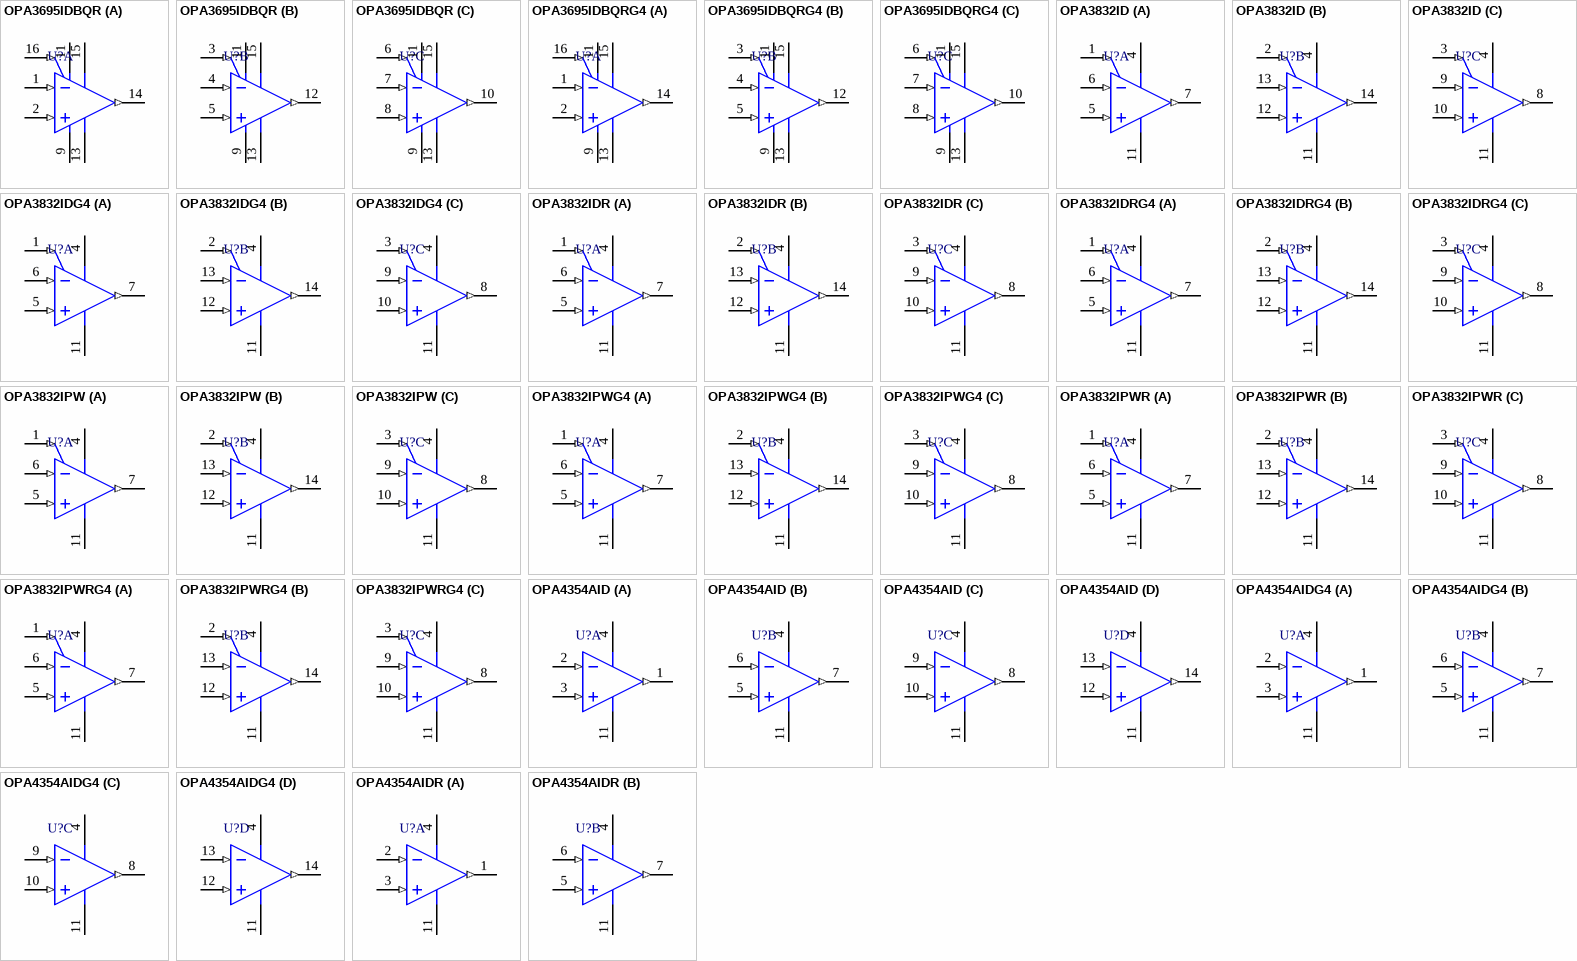
[diagram p18: symbols OPA3695IDBQR to OPA4354AIDR]

## OPA3695IDBQR
designator U?
Ultra-Wideband, Current-Feedback Operational Amplifier with Disable, 3.5 to 12 V, -40 to 85 degC, 16-pin SOP (DBQ16), Green (RoHS & no Sb/Br); Manufacturer: Texas Instruments; PartNumber: OPA3695IDBQR; 2nd Harmonic(dBc): 78; 3rd Harmonic(dBc): 86; @ MHz: 10; Acl, min stable gain(V/V): 2; BW @ Acl(MHz): 900; Diff Gain(%): 0.04; Diff Phase(deg): 0.007; Iib(Max)(nA): 30000; Io(Typ)(mA): 120; Iq per channel(Max)(mA): 13.4; Number of Channels: 3; Slew Rate(Typ)(V/us): 2400; Sub Family: High Output Current Amplifier (>=50mA), High Speed Amplifier (>=50MHz); Vio(Max)(mV): 3.5; Vn at Flatband(Typ)(nV/rtHz): 1.8; Vs(Max)(V): 12; DatasheetVersion: SBOS355A; PackageVersion: 4073301-2/H, 10/2008; PackageReference: DBQ16; PackageDescription: 16-Pin, Plastic Small Outline, Body 3.9 x 4.9 mm, Pitch 0.635 mm; Supplier 1: Digi-Key; Supplier Part Number 1: OPA3695IDBQR-ND; Supplier 2: Mouser; Supplier Part Number 2: 595-OPA3695IDBQR; Eco-Plan: Green (RoHS & no Sb/Br); Settling Time (0.1%)(Typ)(ns): 10; Vs(Min)(V): 3.5; Mounting Technology: Surface Mount; Code_JEDEC: MO-137; ComponentLink1Description: Manufacturer URL; ComponentLink1URL: http://www.ti.com/; ComponentLink2Description: Datasheet; ComponentLink2URL: http://www.ti.com/general/docs/lit/getliterature.tsp?genericPartNumber=OPA3695&fileType=pdf; ComponentLink3Description: Package Specification; ComponentLink3URL: http://www.ti.com/litv/pdf/msoi004g
footprint TI-DBQ16_N (SOP, 16-Leads, Body 4.9x3.9mm, Pitch 0.635mm, IPC Medium Density)
footprint TI-DBQ16_L (SOP, 16-Leads, Body 4.9x3.9mm, Pitch 0.635mm, IPC High Density)
footprint TI-DBQ16_M (SOP, 16-Leads, Body 4.9x3.9mm, Pitch 0.635mm, IPC Low Density)
pins on every part: 9 VS- (power), 11 VS+ (power), 13 VS- (power), 15 VS+ (power)
part A pins: 1 IN A- (in), 2 IN A+ (in), 14 OUT A (out), 16 ~{DIS A} (in)
part B pins: 3 ~{DIS B} (in), 4 IN B- (in), 5 IN B+ (in), 12 OUT B (out)
part C pins: 6 ~{DIS C} (in), 7 IN C- (in), 8 IN C+ (in), 10 OUT C (out)

## OPA3695IDBQRG4
designator U?
Ultra-Wideband, Current-Feedback Operational Amplifier with Disable, 3.5 to 12 V, -40 to 85 degC, 16-pin SOP (DBQ16), Green (RoHS & no Sb/Br); Manufacturer: Texas Instruments; PartNumber: OPA3695IDBQRG4; 2nd Harmonic(dBc): 78; 3rd Harmonic(dBc): 86; @ MHz: 10; Acl, min stable gain(V/V): 2; BW @ Acl(MHz): 900; Diff Gain(%): 0.04; Diff Phase(deg): 0.007; Iib(Max)(nA): 30000; Io(Typ)(mA): 120; Iq per channel(Max)(mA): 13.4; Number of Channels: 3; Slew Rate(Typ)(V/us): 2400; Sub Family: High Output Current Amplifier (>=50mA), High Speed Amplifier (>=50MHz); Vio(Max)(mV): 3.5; Vn at Flatband(Typ)(nV/rtHz): 1.8; Vs(Max)(V): 12; DatasheetVersion: SBOS355A; PackageVersion: 4073301-2/H, 10/2008; PackageReference: DBQ16; PackageDescription: 16-Pin, Plastic Small Outline, Body 3.9 x 4.9 mm, Pitch 0.635 mm; Supplier 1: Digi-Key; Supplier Part Number 1: OPA3695IDBQRG4-ND; Supplier 2: Mouser; Supplier Part Number 2: 595-OPA3695IDBQRG4; Eco-Plan: Green (RoHS & no Sb/Br); Settling Time (0.1%)(Typ)(ns): 10; Vs(Min)(V): 3.5; Mounting Technology: Surface Mount; Code_JEDEC: MO-137; ComponentLink1Description: Manufacturer URL; ComponentLink1URL: http://www.ti.com/; ComponentLink2Description: Datasheet; ComponentLink2URL: http://www.ti.com/general/docs/lit/getliterature.tsp?genericPartNumber=OPA3695&fileType=pdf; ComponentLink3Description: Package Specification; ComponentLink3URL: http://www.ti.com/litv/pdf/msoi004g
footprint TI-DBQ16_N (SOP, 16-Leads, Body 4.9x3.9mm, Pitch 0.635mm, IPC Medium Density)
footprint TI-DBQ16_L (SOP, 16-Leads, Body 4.9x3.9mm, Pitch 0.635mm, IPC High Density)
footprint TI-DBQ16_M (SOP, 16-Leads, Body 4.9x3.9mm, Pitch 0.635mm, IPC Low Density)
pins on every part: 9 VS- (power), 11 VS+ (power), 13 VS- (power), 15 VS+ (power)
part A pins: 1 IN A- (in), 2 IN A+ (in), 14 OUT A (out), 16 ~{DIS A} (in)
part B pins: 3 ~{DIS B} (in), 4 IN B- (in), 5 IN B+ (in), 12 OUT B (out)
part C pins: 6 ~{DIS C} (in), 7 IN C- (in), 8 IN C+ (in), 10 OUT C (out)

## OPA3832ID
designator U?
Triple, Low-Power, High-Speed, Fixed-Gain Operational Amplifier, 3 to 11 V, -40 to 85 degC, 14-pin SOIC (D14), Green (RoHS & no Sb/Br); Manufacturer: Texas Instruments; PartNumber: OPA3832ID; 2nd Harmonic(dBc): 60; 3rd Harmonic(dBc): 79; @ MHz: 5; Acl, min stable gain(V/V): 1; BW @ Acl(MHz): 210; Diff Gain(%): 0.11; Diff Phase(deg): 0.14; Iib(Max)(nA): 10000; Io(Typ)(mA): 75; Iq per channel(Max)(mA): 3.9; Number of Channels: 3; Rail-Rail: Out; Sub Family: High Output Current Amplifier (>=50mA), High Speed Amplifier (>=50MHz); DatasheetVersion: SBOS370A; PackageVersion: 4040047-5/M, 06/2011; PackageReference: D14; PackageDescription: 14-Pin Plastic Small Outline, Body 8.65 x 3.9 mm, Pitch 1.27 mm; Supplier 1: Digi-Key; Supplier Part Number 1: 296-21667-5-ND; Supplier 2: Farnell; Supplier Part Number 2: 1755384; Supplier 3: Mouser; Supplier Part Number 3: 595-OPA3832ID; Eco-Plan: Green (RoHS & no Sb/Br); Mounting Technology: Surface Mount; Code_JEDEC: MS-012; ComponentLink1Description: Manufacturer URL; ComponentLink1URL: http://www.ti.com/; ComponentLink2Description: Datasheet; ComponentLink2URL: http://www.ti.com/general/docs/lit/getliterature.tsp?genericPartNumber=OPA3832&fileType=pdf; ComponentLink3Description: Package Specification; ComponentLink3URL: http://www.ti.com/lit/ml/mpds177g/mpds177g.pdf
footprint TI-D14_N (SOIC, 14-Leads, Body 8.65x3.9mm, Pitch 1.27mm, IPC Medium Density)
footprint TI-D14_L (SOIC, 14-Leads, Body 8.65x3.9mm, Pitch 1.27mm, IPC High Density)
footprint TI-D14_M (SOIC, 14-Leads, Body 8.65x3.9mm, Pitch 1.27mm, IPC Low Density)
pins on every part: 4 VS+ (power), 11 VS- (power)
part A pins: 1 ~{DIS} ~{A} (in), 5 IN A+ (in), 6 IN A- (in), 7 OUT A (out)
part B pins: 2 ~{DIS} ~{B} (in), 12 IN B+ (in), 13 IN B- (in), 14 OUT B (out)
part C pins: 3 ~{DIS} ~{C} (in), 8 OUT C (out), 9 IN C- (in), 10 IN C+ (in)

## OPA3832IDG4
designator U?
Triple, Low-Power, High-Speed, Fixed-Gain Operational Amplifier, 3 to 11 V, -40 to 85 degC, 14-pin SOIC (D14), Green (RoHS & no Sb/Br); Manufacturer: Texas Instruments; PartNumber: OPA3832IDG4; 2nd Harmonic(dBc): 60; 3rd Harmonic(dBc): 79; @ MHz: 5; Acl, min stable gain(V/V): 1; BW @ Acl(MHz): 210; Diff Gain(%): 0.11; Diff Phase(deg): 0.14; Iib(Max)(nA): 10000; Io(Typ)(mA): 75; Iq per channel(Max)(mA): 3.9; Number of Channels: 3; Rail-Rail: Out; Sub Family: High Output Current Amplifier (>=50mA), High Speed Amplifier (>=50MHz); DatasheetVersion: SBOS370A; PackageVersion: 4040047-5/M, 06/2011; PackageReference: D14; PackageDescription: 14-Pin Plastic Small Outline, Body 8.65 x 3.9 mm, Pitch 1.27 mm; Supplier 1: Digi-Key; Supplier Part Number 1: OPA3832IDG4-ND; Supplier 2: Newark; Supplier Part Number 2: 41M3886; Supplier 3: Mouser; Supplier Part Number 3: 595-OPA3832IDG4; Eco-Plan: Green (RoHS & no Sb/Br); Mounting Technology: Surface Mount; Code_JEDEC: MS-012; ComponentLink1Description: Manufacturer URL; ComponentLink1URL: http://www.ti.com/; ComponentLink2Description: Datasheet; ComponentLink2URL: http://www.ti.com/general/docs/lit/getliterature.tsp?genericPartNumber=OPA3832&fileType=pdf; ComponentLink3Description: Package Specification; ComponentLink3URL: http://www.ti.com/lit/ml/mpds177g/mpds177g.pdf
footprint TI-D14_N (SOIC, 14-Leads, Body 8.65x3.9mm, Pitch 1.27mm, IPC Medium Density)
footprint TI-D14_L (SOIC, 14-Leads, Body 8.65x3.9mm, Pitch 1.27mm, IPC High Density)
footprint TI-D14_M (SOIC, 14-Leads, Body 8.65x3.9mm, Pitch 1.27mm, IPC Low Density)
pins on every part: 4 VS+ (power), 11 VS- (power)
part A pins: 1 ~{DIS} ~{A} (in), 5 IN A+ (in), 6 IN A- (in), 7 OUT A (out)
part B pins: 2 ~{DIS} ~{B} (in), 12 IN B+ (in), 13 IN B- (in), 14 OUT B (out)
part C pins: 3 ~{DIS} ~{C} (in), 8 OUT C (out), 9 IN C- (in), 10 IN C+ (in)

## OPA3832IDR
designator U?
Triple, Low-Power, High-Speed, Fixed-Gain Operational Amplifier, 3 to 11 V, -40 to 85 degC, 14-pin SOIC (D14), Green (RoHS & no Sb/Br); Manufacturer: Texas Instruments; PartNumber: OPA3832IDR; 2nd Harmonic(dBc): 60; 3rd Harmonic(dBc): 79; @ MHz: 5; Acl, min stable gain(V/V): 1; BW @ Acl(MHz): 210; Diff Gain(%): 0.11; Diff Phase(deg): 0.14; Iib(Max)(nA): 10000; Io(Typ)(mA): 75; Iq per channel(Max)(mA): 3.9; Number of Channels: 3; Rail-Rail: Out; Sub Family: High Output Current Amplifier (>=50mA), High Speed Amplifier (>=50MHz); DatasheetVersion: SBOS370A; PackageVersion: 4040047-5/M, 06/2011; PackageReference: D14; PackageDescription: 14-Pin Plastic Small Outline, Body 8.65 x 3.9 mm, Pitch 1.27 mm; Supplier 1: Digi-Key; Supplier Part Number 1: OPA3832IDR-ND; Supplier 2: Mouser; Supplier Part Number 2: 595-OPA3832IDR; Eco-Plan: Green (RoHS & no Sb/Br); Mounting Technology: Surface Mount; Code_JEDEC: MS-012; ComponentLink1Description: Manufacturer URL; ComponentLink1URL: http://www.ti.com/; ComponentLink2Description: Datasheet; ComponentLink2URL: http://www.ti.com/general/docs/lit/getliterature.tsp?genericPartNumber=OPA3832&fileType=pdf; ComponentLink3Description: Package Specification; ComponentLink3URL: http://www.ti.com/lit/ml/mpds177g/mpds177g.pdf
footprint TI-D14_N (SOIC, 14-Leads, Body 8.65x3.9mm, Pitch 1.27mm, IPC Medium Density)
footprint TI-D14_L (SOIC, 14-Leads, Body 8.65x3.9mm, Pitch 1.27mm, IPC High Density)
footprint TI-D14_M (SOIC, 14-Leads, Body 8.65x3.9mm, Pitch 1.27mm, IPC Low Density)
pins on every part: 4 VS+ (power), 11 VS- (power)
part A pins: 1 ~{DIS} ~{A} (in), 5 IN A+ (in), 6 IN A- (in), 7 OUT A (out)
part B pins: 2 ~{DIS} ~{B} (in), 12 IN B+ (in), 13 IN B- (in), 14 OUT B (out)
part C pins: 3 ~{DIS} ~{C} (in), 8 OUT C (out), 9 IN C- (in), 10 IN C+ (in)

## OPA3832IDRG4
designator U?
Triple, Low-Power, High-Speed, Fixed-Gain Operational Amplifier, 3 to 11 V, -40 to 85 degC, 14-pin SOIC (D14), Green (RoHS & no Sb/Br); Manufacturer: Texas Instruments; PartNumber: OPA3832IDRG4; 2nd Harmonic(dBc): 60; 3rd Harmonic(dBc): 79; @ MHz: 5; Acl, min stable gain(V/V): 1; BW @ Acl(MHz): 210; Diff Gain(%): 0.11; Diff Phase(deg): 0.14; Iib(Max)(nA): 10000; Io(Typ)(mA): 75; Iq per channel(Max)(mA): 3.9; Number of Channels: 3; Rail-Rail: Out; Sub Family: High Output Current Amplifier (>=50mA), High Speed Amplifier (>=50MHz); DatasheetVersion: SBOS370A; PackageVersion: 4040047-5/M, 06/2011; PackageReference: D14; PackageDescription: 14-Pin Plastic Small Outline, Body 8.65 x 3.9 mm, Pitch 1.27 mm; Supplier 1: Digi-Key; Supplier Part Number 1: OPA3832IDRG4-ND; Supplier 2: Mouser; Supplier Part Number 2: 595-OPA3832IDRG4; Eco-Plan: Green (RoHS & no Sb/Br); Mounting Technology: Surface Mount; Code_JEDEC: MS-012; ComponentLink1Description: Manufacturer URL; ComponentLink1URL: http://www.ti.com/; ComponentLink2Description: Datasheet; ComponentLink2URL: http://www.ti.com/general/docs/lit/getliterature.tsp?genericPartNumber=OPA3832&fileType=pdf; ComponentLink3Description: Package Specification; ComponentLink3URL: http://www.ti.com/lit/ml/mpds177g/mpds177g.pdf
footprint TI-D14_N (SOIC, 14-Leads, Body 8.65x3.9mm, Pitch 1.27mm, IPC Medium Density)
footprint TI-D14_L (SOIC, 14-Leads, Body 8.65x3.9mm, Pitch 1.27mm, IPC High Density)
footprint TI-D14_M (SOIC, 14-Leads, Body 8.65x3.9mm, Pitch 1.27mm, IPC Low Density)
pins on every part: 4 VS+ (power), 11 VS- (power)
part A pins: 1 ~{DIS} ~{A} (in), 5 IN A+ (in), 6 IN A- (in), 7 OUT A (out)
part B pins: 2 ~{DIS} ~{B} (in), 12 IN B+ (in), 13 IN B- (in), 14 OUT B (out)
part C pins: 3 ~{DIS} ~{C} (in), 8 OUT C (out), 9 IN C- (in), 10 IN C+ (in)

## OPA3832IPW
designator U?
Triple, Low-Power, High-Speed, Fixed-Gain Operational Amplifier, 3 to 11 V, -40 to 85 degC, 14-pin SOP (PW14), Green (RoHS & no Sb/Br); Manufacturer: Texas Instruments; PartNumber: OPA3832IPW; 2nd Harmonic(dBc): 60; 3rd Harmonic(dBc): 79; @ MHz: 5; Acl, min stable gain(V/V): 1; BW @ Acl(MHz): 210; Diff Gain(%): 0.11; Diff Phase(deg): 0.14; Iib(Max)(nA): 10000; Io(Typ)(mA): 75; Iq per channel(Max)(mA): 3.9; Number of Channels: 3; Rail-Rail: Out; Sub Family: High Output Current Amplifier (>=50mA), High Speed Amplifier (>=50MHz); DatasheetVersion: SBOS370A; PackageVersion: 4040064-3/G, 02/2011; PackageReference: PW14; PackageDescription: 14-Pin Plastic Small Outline, Body 5 x 4.4 mm, Pitch 0.65 mm; Supplier 1: Digi-Key; Supplier Part Number 1: 296-21394-5-ND; Supplier 2: Newark; Supplier Part Number 2: 27M0444; Supplier 3: Mouser; Supplier Part Number 3: 595-OPA3832IPW; Eco-Plan: Green (RoHS & no Sb/Br); Mounting Technology: Surface Mount; Code_JEDEC: MO-153; ComponentLink1Description: Manufacturer URL; ComponentLink1URL: http://www.ti.com/; ComponentLink2Description: Datasheet; ComponentLink2URL: http://www.ti.com/general/docs/lit/getliterature.tsp?genericPartNumber=OPA3832&fileType=pdf; ComponentLink3Description: Package Specification; ComponentLink3URL: http://www.ti.com/litv/pdf/mpds360
footprint TI-PW14_N (SOP, 14-Leads, Body 5x4.4mm, Pitch 0.65mm, IPC Medium Density)
footprint TI-PW14_L (SOP, 14-Leads, Body 5x4.4mm, Pitch 0.65mm, IPC High Density)
footprint TI-PW14_M (SOP, 14-Leads, Body 5x4.4mm, Pitch 0.65mm, IPC Low Density)
pins on every part: 4 VS+ (power), 11 VS- (power)
part A pins: 1 ~{DIS} ~{A} (in), 5 IN A+ (in), 6 IN A- (in), 7 OUT A (out)
part B pins: 2 ~{DIS} ~{B} (in), 12 IN B+ (in), 13 IN B- (in), 14 OUT B (out)
part C pins: 3 ~{DIS} ~{C} (in), 8 OUT C (out), 9 IN C- (in), 10 IN C+ (in)